# EAGLE library part RFM69HW-868S2 (library RFM69HW-868S2)
Module: RF; FM transceiver; FSK; 868MHz; SPI; 1.8÷3.6VDC; 20dBm; SMD
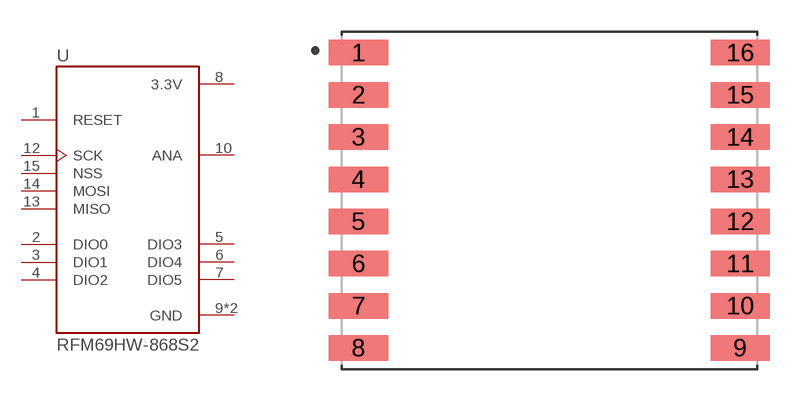
[diagram p0: symbol with the pads of XCVR_RFM69HW-868S2; footprint XCVR_RFM69HW-868S2]

Designator prefix U

## RFM69HW-868S2 (Availability: Unavailable; Description: Module: RF; FM transceiver; FSK; 868MHz; SPI; 1.8÷3.6VDC; 20dBm; SMD; MF: RF; MP: RFM69HW-868S2; Package: SMD-16 Hope Microelectronics; Price: None)  [XCVR_RFM69HW-868S2]
1  RESET
2  DIO0
3  DIO1
4  DIO2
5  DIO3
6  DIO4
7  DIO5
8  3.3V  pwr
9  GND  pwr
10  ANA
11  GND  pwr
12  SCK  in
13  MISO  out
14  MOSI  in
15  NSS  in

## Footprint XCVR_RFM69HW-868S2 (pad centres in mm)
smd 2.81 x 1.21: 1 -9.05,7; 2 -9.05,5; 3 -9.05,3; 4 -9.05,1; 5 -9.05,-1; 6 -9.05,-3; 7 -9.05,-5; 8 -9.05,-7; 9 9.05,-7; 10 9.05,-5; 11 9.05,-3; 12 9.05,-1; 13 9.05,1; 14 9.05,3; 15 9.05,5; 16 9.05,7